# Altium schematic symbol library SBTCJ-13-75+.SchLib: 1 symbol
Pins are listed as number, name and electrical type; pins without a type are passive.

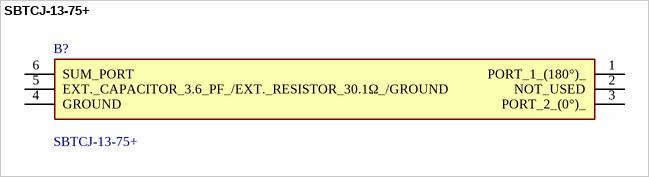
[diagram p0: symbol SBTCJ-13-75+]

## SBTCJ-13-75+
designator B?
RF Power Divider 5 MHz ~ 1 GHz Isolation (Min) 20dB, 1.8 VSWR (Max), 9 Imbalance (Max) 6-SMD, Flat Leads; Manufacturer_Name: Mini-Circuits; Geometry.Height: 4.06mm; Mouser Part Number: *; Mouser Price/Stock: *; Manufacturer_Part_Number: SBTCJ-13-75+; Datasheet Link: https://www.minicircuits.com/pdfs/SBTCJ-13-75+.pdf
footprint SBTCJ1375
pins: 1 PORT_1_(180°)_, 2 NOT_USED, 3 PORT_2_(0°)_, 4 GROUND, 5 EXT._CAPACITOR_3.6_PF_/EXT._RESISTOR_30.1Ω_/GROUND, 6 SUM_PORT